# Altium schematic symbol library SCH - MCU - NUVOTON - NUVOTON M471SG7AE.SchLib: 1 symbol
Pins are listed as number, name and electrical type; pins without a type are passive.

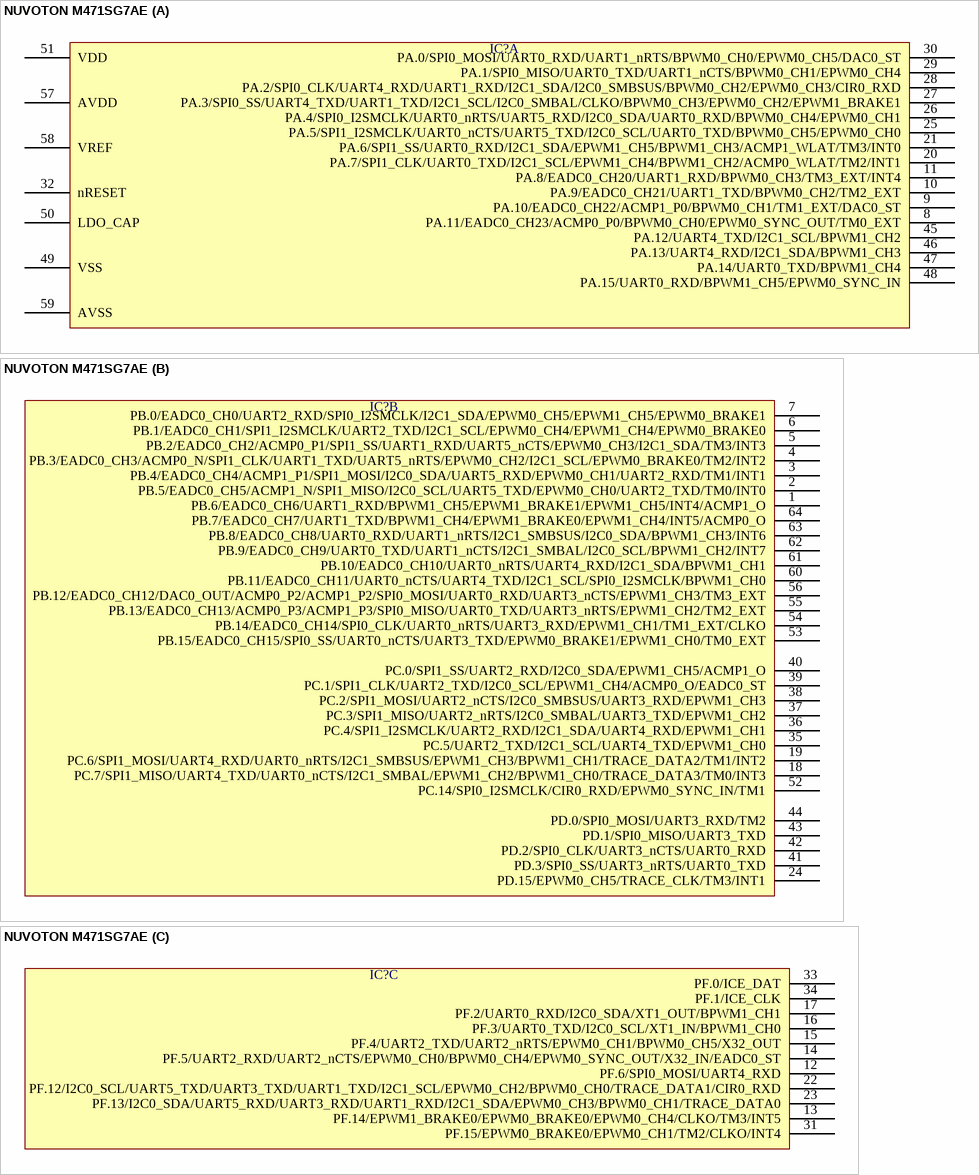
[diagram p0: symbol NUVOTON M471SG7AE]

## NUVOTON M471SG7AE
designator IC?  (value not drawn)
part A pins: 8 PA.11/EADC0_CH23/ACMP0_P0/BPWM0_CH0/EPWM0_SYNC_OUT/TM0_EXT, 9 PA.10/EADC0_CH22/ACMP1_P0/BPWM0_CH1/TM1_EXT/DAC0_ST, 10 PA.9/EADC0_CH21/UART1_TXD/BPWM0_CH2/TM2_EXT, 11 PA.8/EADC0_CH20/UART1_RXD/BPWM0_CH3/TM3_EXT/INT4, 20 PA.7/SPI1_CLK/UART0_TXD/I2C1_SCL/EPWM1_CH4/BPWM1_CH2/ACMP0_WLAT/TM2/INT1, 21 PA.6/SPI1_SS/UART0_RXD/I2C1_SDA/EPWM1_CH5/BPWM1_CH3/ACMP1_WLAT/TM3/INT0, 25 PA.5/SPI1_I2SMCLK/UART0_nCTS/UART5_TXD/I2C0_SCL/UART0_TXD/BPWM0_CH5/EPWM0_CH0, 26 PA.4/SPI0_I2SMCLK/UART0_nRTS/UART5_RXD/I2C0_SDA/UART0_RXD/BPWM0_CH4/EPWM0_CH1, 27 PA.3/SPI0_SS/UART4_TXD/UART1_TXD/I2C1_SCL/I2C0_SMBAL/CLKO/BPWM0_CH3/EPWM0_CH2/EPWM1_BRAKE1, 28 PA.2/SPI0_CLK/UART4_RXD/UART1_RXD/I2C1_SDA/I2C0_SMBSUS/BPWM0_CH2/EPWM0_CH3/CIR0_RXD, 29 PA.1/SPI0_MISO/UART0_TXD/UART1_nCTS/BPWM0_CH1/EPWM0_CH4, 30 PA.0/SPI0_MOSI/UART0_RXD/UART1_nRTS/BPWM0_CH0/EPWM0_CH5/DAC0_ST, 32 nRESET, 45 PA.12/UART4_TXD/I2C1_SCL/BPWM1_CH2, 46 PA.13/UART4_RXD/I2C1_SDA/BPWM1_CH3, 47 PA.14/UART0_TXD/BPWM1_CH4, 48 PA.15/UART0_RXD/BPWM1_CH5/EPWM0_SYNC_IN, 49 VSS, 50 LDO_CAP, 51 VDD, 57 AVDD, 58 VREF, 59 AVSS
part B pins: 1 PB.6/EADC0_CH6/UART1_RXD/BPWM1_CH5/EPWM1_BRAKE1/EPWM1_CH5/INT4/ACMP1_O, 2 PB.5/EADC0_CH5/ACMP1_N/SPI1_MISO/I2C0_SCL/UART5_TXD/EPWM0_CH0/UART2_TXD/TM0/INT0, 3 PB.4/EADC0_CH4/ACMP1_P1/SPI1_MOSI/I2C0_SDA/UART5_RXD/EPWM0_CH1/UART2_RXD/TM1/INT1, 4 PB.3/EADC0_CH3/ACMP0_N/SPI1_CLK/UART1_TXD/UART5_nRTS/EPWM0_CH2/I2C1_SCL/EPWM0_BRAKE0/TM2/INT2, 5 PB.2/EADC0_CH2/ACMP0_P1/SPI1_SS/UART1_RXD/UART5_nCTS/EPWM0_CH3/I2C1_SDA/TM3/INT3, 6 PB.1/EADC0_CH1/SPI1_I2SMCLK/UART2_TXD/I2C1_SCL/EPWM0_CH4/EPWM1_CH4/EPWM0_BRAKE0, 7 PB.0/EADC0_CH0/UART2_RXD/SPI0_I2SMCLK/I2C1_SDA/EPWM0_CH5/EPWM1_CH5/EPWM0_BRAKE1, 18 PC.7/SPI1_MISO/UART4_TXD/UART0_nCTS/I2C1_SMBAL/EPWM1_CH2/BPWM1_CH0/TRACE_DATA3/TM0/INT3, 19 PC.6/SPI1_MOSI/UART4_RXD/UART0_nRTS/I2C1_SMBSUS/EPWM1_CH3/BPWM1_CH1/TRACE_DATA2/TM1/INT2, 24 PD.15/EPWM0_CH5/TRACE_CLK/TM3/INT1, 35 PC.5/UART2_TXD/I2C1_SCL/UART4_TXD/EPWM1_CH0, 36 PC.4/SPI1_I2SMCLK/UART2_RXD/I2C1_SDA/UART4_RXD/EPWM1_CH1, 37 PC.3/SPI1_MISO/UART2_nRTS/I2C0_SMBAL/UART3_TXD/EPWM1_CH2, 38 PC.2/SPI1_MOSI/UART2_nCTS/I2C0_SMBSUS/UART3_RXD/EPWM1_CH3, 39 PC.1/SPI1_CLK/UART2_TXD/I2C0_SCL/EPWM1_CH4/ACMP0_O/EADC0_ST, 40 PC.0/SPI1_SS/UART2_RXD/I2C0_SDA/EPWM1_CH5/ACMP1_O, 41 PD.3/SPI0_SS/UART3_nRTS/UART0_TXD, 42 PD.2/SPI0_CLK/UART3_nCTS/UART0_RXD, 43 PD.1/SPI0_MISO/UART3_TXD, 44 PD.0/SPI0_MOSI/UART3_RXD/TM2, 52 PC.14/SPI0_I2SMCLK/CIR0_RXD/EPWM0_SYNC_IN/TM1, 53 PB.15/EADC0_CH15/SPI0_SS/UART0_nCTS/UART3_TXD/EPWM0_BRAKE1/EPWM1_CH0/TM0_EXT, 54 PB.14/EADC0_CH14/SPI0_CLK/UART0_nRTS/UART3_RXD/EPWM1_CH1/TM1_EXT/CLKO, 55 PB.13/EADC0_CH13/ACMP0_P3/ACMP1_P3/SPI0_MISO/UART0_TXD/UART3_nRTS/EPWM1_CH2/TM2_EXT, 56 PB.12/EADC0_CH12/DAC0_OUT/ACMP0_P2/ACMP1_P2/SPI0_MOSI/UART0_RXD/UART3_nCTS/EPWM1_CH3/TM3_EXT, 60 PB.11/EADC0_CH11/UART0_nCTS/UART4_TXD/I2C1_SCL/SPI0_I2SMCLK/BPWM1_CH0, 61 PB.10/EADC0_CH10/UART0_nRTS/UART4_RXD/I2C1_SDA/BPWM1_CH1, 62 PB.9/EADC0_CH9/UART0_TXD/UART1_nCTS/I2C1_SMBAL/I2C0_SCL/BPWM1_CH2/INT7, 63 PB.8/EADC0_CH8/UART0_RXD/UART1_nRTS/I2C1_SMBSUS/I2C0_SDA/BPWM1_CH3/INT6, 64 PB.7/EADC0_CH7/UART1_TXD/BPWM1_CH4/EPWM1_BRAKE0/EPWM1_CH4/INT5/ACMP0_O
part C pins: 12 PF.6/SPI0_MOSI/UART4_RXD, 13 PF.14/EPWM1_BRAKE0/EPWM0_BRAKE0/EPWM0_CH4/CLKO/TM3/INT5, 14 PF.5/UART2_RXD/UART2_nCTS/EPWM0_CH0/BPWM0_CH4/EPWM0_SYNC_OUT/X32_IN/EADC0_ST, 15 PF.4/UART2_TXD/UART2_nRTS/EPWM0_CH1/BPWM0_CH5/X32_OUT, 16 PF.3/UART0_TXD/I2C0_SCL/XT1_IN/BPWM1_CH0, 17 PF.2/UART0_RXD/I2C0_SDA/XT1_OUT/BPWM1_CH1, 22 PF.12/I2C0_SCL/UART5_TXD/UART3_TXD/UART1_TXD/I2C1_SCL/EPWM0_CH2/BPWM0_CH0/TRACE_DATA1/CIR0_RXD, 23 PF.13/I2C0_SDA/UART5_RXD/UART3_RXD/UART1_RXD/I2C1_SDA/EPWM0_CH3/BPWM0_CH1/TRACE_DATA0, 31 PF.15/EPWM0_BRAKE0/EPWM0_CH1/TM2/CLKO/INT4, 33 PF.0/ICE_DAT, 34 PF.1/ICE_CLK